# Altium schematic symbol library TSAL.SchLib: 10 symbols
Pins are listed as number, name and electrical type; pins without a type are passive.

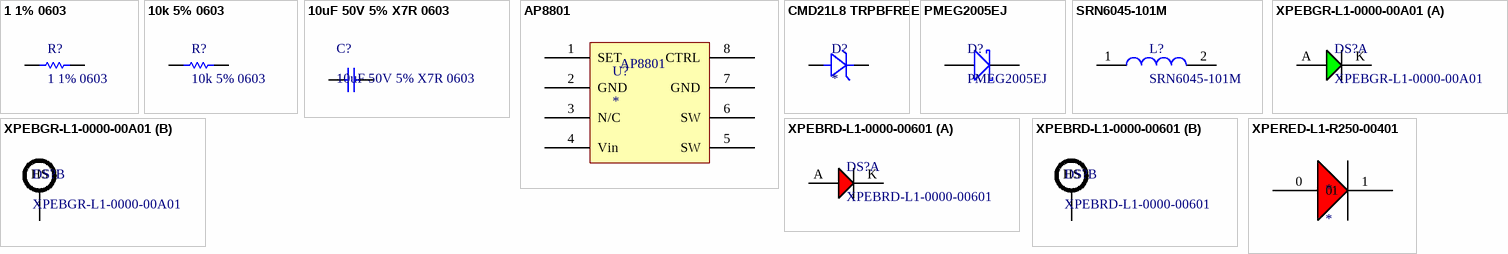
[diagram p0: symbols 1 1% 0603 to XPERED-L1-R250-00401]

## 1 1% 0603
designator R?
Resistor, SMD, 1, 0.1W, 1%, 0603
footprint Res_ThinFilm_0603 (1,10k)
pins: 1, 2

## 10k 5% 0603
designator R?
Resistor, SMD, 10k, 0.1W, 5%, 0603
footprint Res_ThinFilm_0603 (1,10k)
pins: 1, 2

## 10uF 50V 5% X7R 0603
designator C?
Capacitor, Ceramic, SMD, 10uF, 50V, 5%, X7R, 0603
footprint Cap_Ceramic_0603(10uf)
pins: 1, 2

## AP8801
designator U?
the LED drver fotr the red and green LED's
footprint SOP8/SO8(AP8801) (SOP, 8-Leads, Body 4.90x3.90mm, Pitch 1.27mm, IPC Medium Density)
pins: 1 SET, 2 GND, 3 N/C, 4 Vin, 5 SW, 6 SW, 7 GND, 8 CTRL

## CMD21L8 TRPBFREE
designator D?
footprint SODFL160X80-2N(Zener) (SODFL, 2-Leads, Body 0.80x1.60mm, IPC Medium Density)
pins: A Anode, K Cathode

## PMEG2005EJ
designator D?
Diode, Schottky, SMD, 20 V, 500 mA, Single, SOD-323F, 2 Pins, 390 mV; ComponentLink1Description: Element14; ComponentLink1URL: https://au.element14.com/nexperia/pmeg2005ej-115/schottky-rect-20v-0-5a-sod323f/dp/1757760
footprint SOD-323F(shottkey)
pins: A Anode, K Cathode

## SRN6045-101M
designator L?
Inductor, 100 µH, 700 mA, Semishielded, 800 mA, SRN6045 Series, 6mm x 6mm x 4.5mm; ComponentLink1Description: Element14; ComponentLink1URL: https://au.element14.com/bourns/srn6045-101m/inductor-100uh-semi-shielded-power/dp/2061658
footprint Bourns Inductor 6x6x4.5mm(100mH)
pins: 1, 2

## XPEBGR-L1-0000-00A01
designator DS?
LED, Cree XLamp XP-E2 Series, Green, 535 nm, 135 °, 87.4 lm, 1 A; ComponentLink1Description: Element14; ComponentLink1URL: https://au.element14.com/cree/xpebrd-l1-0000-00601/led-smd-xlamp-xpe-e-red-62lm/dp/2335107
footprint Cree XLamp XP-E2 (red and green LED)
part A pins: A, K
part B pins: HS

## XPEBRD-L1-0000-00601
designator DS?
LED, Cree XLamp XP-E2 Series, Red, 630 nm, 130 °, 62 lm, 1 A; ComponentLink1Description: Element14; ComponentLink1URL: https://au.element14.com/cree/xpebrd-l1-0000-00601/led-smd-xlamp-xpe-e-red-62lm/dp/2335107
footprint Cree XLamp XP-E2 (red and green LED)
part A pins: A, K
part B pins: HS

## XPERED-L1-R250-00401
designator *
pins: 0, 1